# EAGLE library part 74*648 (library 74ttl-din)
8-bit inverting TRANSCEIVER, 3-state
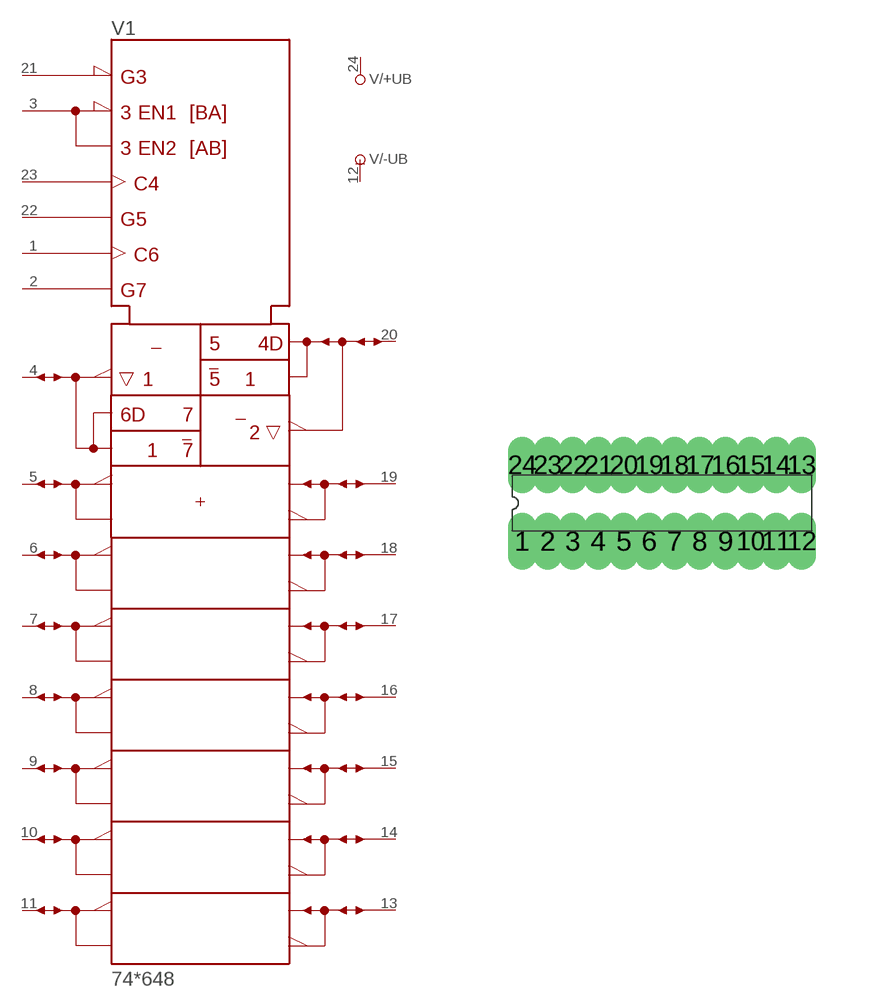
[diagram p121: symbol with the pads of DIL24-3; footprint DIL24-3]

Designator prefix V; gates /+UB=+UB /-UB=-UB 1=648

## 74648N  [DIL24-3]
1  1:CAB  in
2  1:SAB  in
3  1:DIR  in
4  1:A1
5  1:A2
6  1:A3
7  1:A4
8  1:A5
9  1:A6
10  1:A7
11  1:A8
12  /-UB:-UB  pwr
13  1:B8
14  1:B7
15  1:B6
16  1:B5
17  1:B4
18  1:B3
19  1:B2
20  1:B1
21  1:!G  in
22  1:SBA  in
23  1:CBA  in
24  /+UB:+UB  pwr

## Footprint DIL24-3 (pad centres in mm)
Dual In Line Package 0.3 inch
drill 0.203 long: 1 -3.493,-0.953; 2 -2.857,-0.953; 3 -2.223,-0.953; 4 -1.587,-0.953; 5 -0.953,-0.953; 6 -0.318,-0.953; 7 0.318,-0.953; 8 0.953,-0.953; 9 1.587,-0.953; 10 2.223,-0.953; 11 2.857,-0.953; 12 3.493,-0.953; 13 3.493,0.953; 14 2.857,0.953; 15 2.223,0.953; 16 1.587,0.953; 17 0.953,0.953; 18 0.318,0.953; 19 -0.318,0.953; 20 -0.953,0.953; 21 -1.587,0.953; 22 -2.223,0.953; 23 -2.857,0.953; 24 -3.493,0.953